# Altium integrated library BOB-12009.IntLib: 1 symbol
Pins are listed as number, name and electrical type; pins without a type are passive.

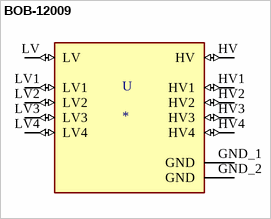
[diagram p0: symbol BOB-12009]

## BOB-12009
designator U
BSS138 Logic-Level Translator Interface Evaluation Board; MP: BOB-12009; MF: SparkFun; Price: None; Availability: Unavailable; SnapEDA_Link: https://www.snapeda.com/parts/BOB-12009/SparkFun%20Electronics/view-part/551764/?ref=snap; Value: *; Package: None
footprint CONV_BOB-12009
pins: GND_1 GND (power), GND_2 GND (power), HV (io), HV1 (io), HV2 (io), HV3 (io), HV4 (io), LV (io), LV1 (io), LV2 (io), LV3 (io), LV4 (io)